# Altium footprint library SmartScale_PcbLib1.PcbLib: 51 footprints (part 2 of 4)
Each footprint in its own frame and in the unit in brackets; x right, y up, seen from the top. Pads: shape width x height; smd on the part's side, far side on the other; paste and mask are expansions set on the pad; w line width, h text height; cw(c..) or ccw(c..) is an arc to the next point about the centre after c.
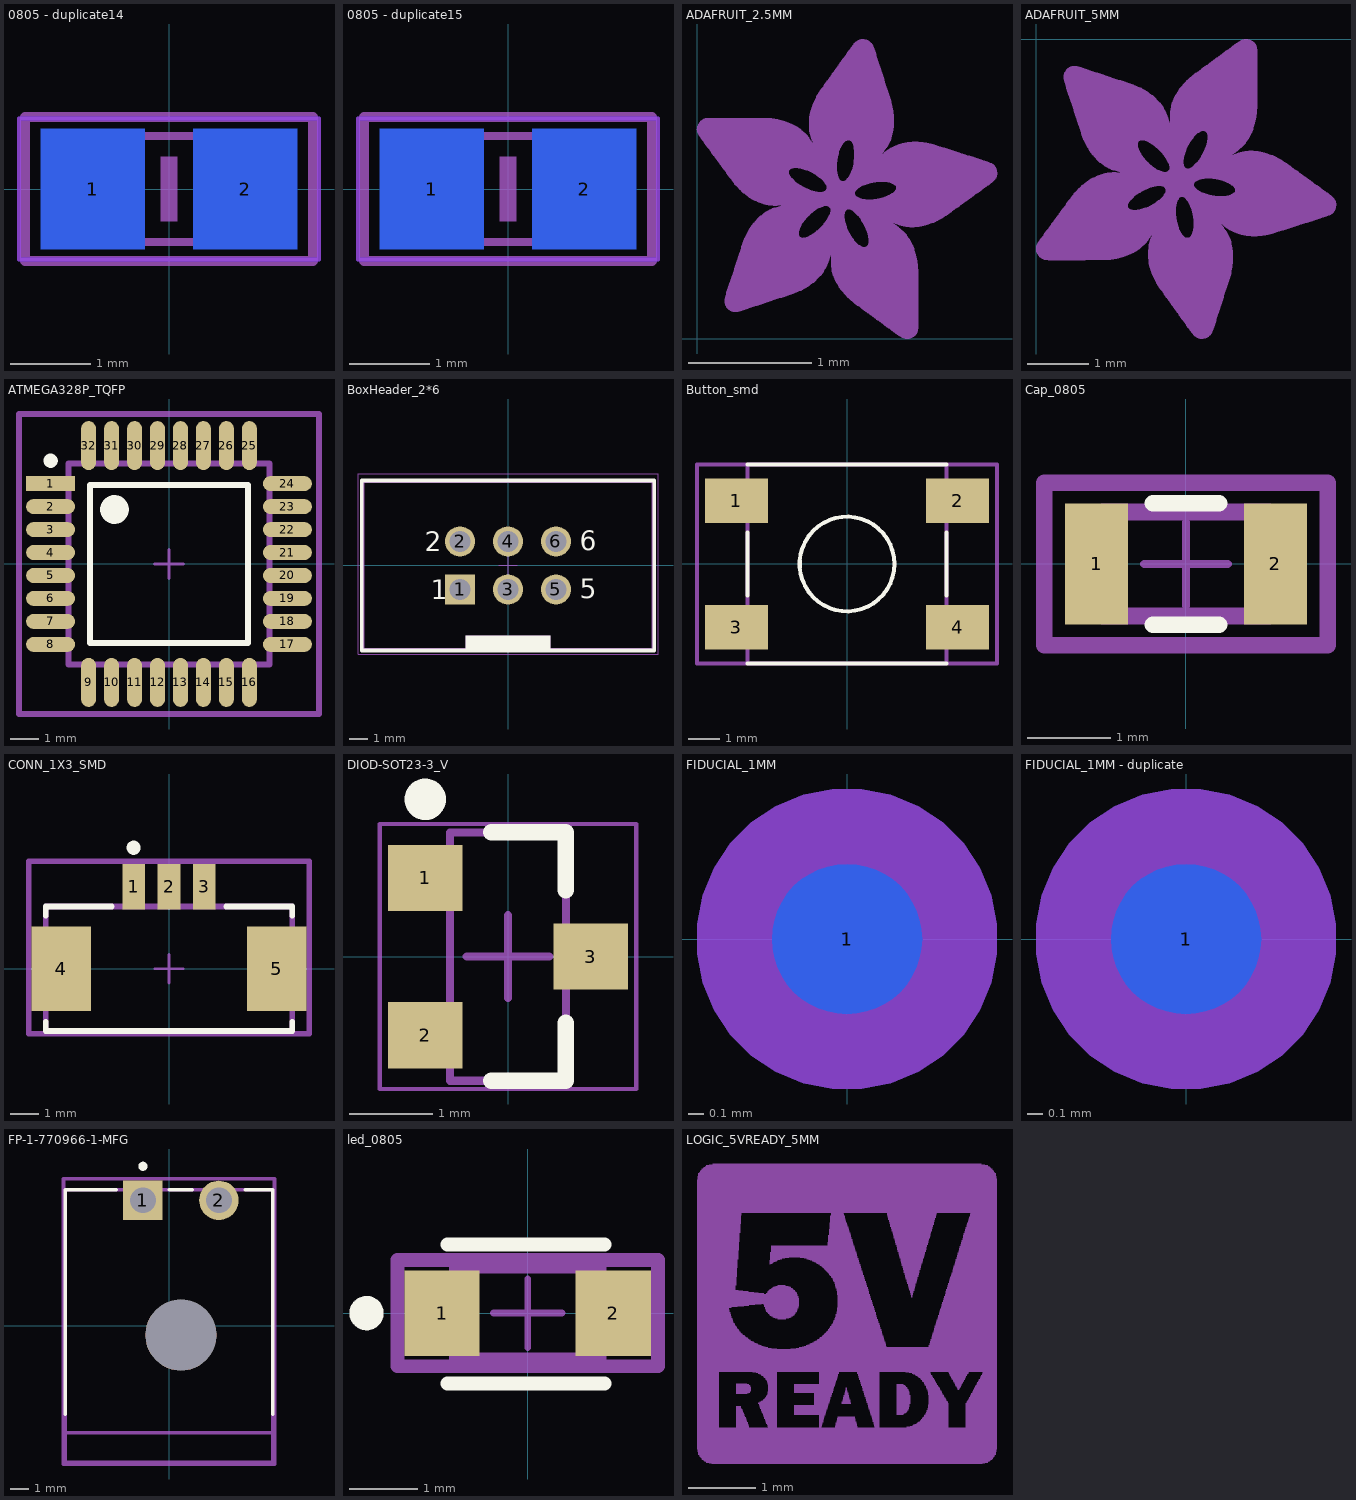
[diagram p1: the footprints below, top view; thin cyan lines are the x and y axes]

## 0805 - duplicate14 [mm] "0805"
pads (2):
  rect 1.3x1.5 smd far side: 1(-0.95,0) 2(0.95,0)
Bottom Layer keep-out:
  lines w0.051: -1.873,-0.883 -1.873,0.883 1.873,0.883 1.873,-0.883 -1.873,-0.883
Mechanical 4:
  region: 0.356,0.724 0.356,-0.726 1.106,-0.726 1.106,0.724
  region: -1.092,0.724 -1.092,-0.726 -0.342,-0.726 -0.342,0.724
  lines w0.102: -0.381,-0.66 0.381,-0.66 ; -0.356,0.66 0.381,0.66
Mechanical 8:
  lines w0.127: -1.8,-0.9 1.8,-0.9 1.8,0.9 -1.8,0.9 -1.8,-0.9
Top Glue Points:
  region: -0.1,0.4 -0.1,-0.4 0.1,-0.4 0.1,0.4

## 0805 - duplicate15 [mm] "0805"
pads (2):
  rect 1.3x1.5 smd far side: 1(-0.95,0) 2(0.95,0)
Bottom Layer keep-out:
  lines w0.051: -1.873,-0.883 -1.873,0.883 1.873,0.883 1.873,-0.883 -1.873,-0.883
Mechanical 4:
  region: 0.356,0.724 0.356,-0.726 1.106,-0.726 1.106,0.724
  region: -1.092,0.724 -1.092,-0.726 -0.342,-0.726 -0.342,0.724
  lines w0.102: -0.381,-0.66 0.381,-0.66 ; -0.356,0.66 0.381,0.66
Mechanical 8:
  lines w0.127: -1.8,-0.9 1.8,-0.9 1.8,0.9 -1.8,0.9 -1.8,-0.9
Top Glue Points:
  region: -0.1,0.4 -0.1,-0.4 0.1,-0.4 0.1,0.4

## ADAFRUIT_2.5MM [mm] "ADAFRUIT_2.5MM"
Mechanical 7:
  drawing of 1191 lines, arcs and shapes, not listed

## ADAFRUIT_5MM [mm] "ADAFRUIT_5MM"
Mechanical 8:
  drawing of 1191 lines, arcs and shapes, not listed

## ATMEGA328P_TQFP [mm]
pads (32):
  rect 1.704x0.526 smd paste+0 mask+0: 1(-4.125,2.8)
  rrect100% 1.704x0.526 smd paste+0 mask+0: 2(-4.125,2) 3(-4.125,1.2) 4(-4.125,0.4) 5(-4.125,-0.4) 6(-4.125,-1.2) 7(-4.125,-2) 8(-4.125,-2.8) 17(4.125,-2.8) 18(4.125,-2) 19(4.125,-1.2) 20(4.125,-0.4) 21(4.125,0.4) 22(4.125,1.2) 23(4.125,2) 24(4.125,2.8)
  rrect100% 0.526x1.704 smd paste+0 mask+0: 9(-2.8,-4.125) 10(-2,-4.125) 11(-1.2,-4.125) 12(-0.4,-4.125) 13(0.4,-4.125) 14(1.2,-4.125) 15(2,-4.125) 16(2.8,-4.125) 25(2.8,4.125) 26(2,4.125) 27(1.2,4.125) 28(0.4,4.125) 29(-0.4,4.125) 30(-1.2,4.125) 31(-2,4.125) 32(-2.8,4.125)
Top Overlay:
  circle w0.5: c-1.9,1.9 r0.25
  circle w0.25: c-4.125,3.6 r0.125
  lines w0.2: -2.75,-2.75 -2.75,2.75 2.75,2.75 2.75,-2.75 -2.75,-2.75
Mechanical 5:
  lines w0.2: -5.227,-5.227 -5.227,5.227 5.227,5.227 5.227,-5.227 -5.227,-5.227
  text ".Designator" at 0,0 h1
Mechanical 13:
  lines w0.2: -3.5,-3.5 -3.5,3.5 3.5,3.5 3.5,-3.5 -3.5,-3.5
Mechanical 15:
  lines w0.2: -5.227,-5.227 -5.227,5.227 5.227,5.227 5.227,-5.227 -5.227,-5.227
Mechanical 16:
  lines w0.1: -0.5,0 0.5,0 ; 0,-0.5 0,0.5
3D body "IC_Microchip_ATMEGA168PB-AU_eec.STEP": height 0.25, standoff 0, extent -5.227,-5.227 5.227,5.227

## BoxHeader_2*6 [mm] "6 pins, straight, gold plating"
height 9.1
pads (6):
  rect 1.6x1.6 hole 1.1: 1(-2.54,-1.27)
  round 1.6 hole 1.1: 2(-2.54,1.27) 3(0,-1.27) 4(0,1.27) 5(2.54,-1.27) 6(2.54,1.27)
Top Overlay:
  rectangle: -2.25,-4.5 2.25,-3.7
  lines w0.2: -7.74,-4.5 -7.74,4.5 7.74,4.5 7.74,-4.5 -7.74,-4.5
  text "5" at 3.8,-1.74 h1.02
  text "2" at -4.4,0.74 h1.02
  text "6" at 3.8,0.8 h1.02
  text "1" at -4.1,-1.8 h1.02
Mechanical 5:
  text ".Designator" at 0,0 h1
Mechanical 13:
  rectangle: -2.25,-4.425 2.25,-3.7
  lines w0.1: -7.64,-4.425 7.64,-4.425 7.64,4.425 -7.64,4.425 -7.64,-4.425
Mechanical 15:
  lines w0.05: -0.5,0 0.5,0 ; 0,-0.5 0,0.5 ; -7.94,-4.7 -7.94,4.85 7.94,4.85 7.94,-4.7 -7.94,-4.7
3D body "61200621621.stp": height 9.13, standoff -2.98, extent -7.64,-4.425 7.64,4.75

## Button_smd [mm] "6*6mm vertical type, SMD, height 2.5mm, salmon actuator, 360gf, T&R"
height 2.5
pads (4):
  rect 2x1.4 smd: 1(-3.5,2) 2(3.5,2) 3(-3.5,-2) 4(3.5,-2)
Top Overlay:
  circle w0.127: c0,0 r1.5
  lines w0.127: -3.15,-3.15 3.15,-3.15 ; -3.15,-1 -3.15,1 ; -3.15,3.15 1.3,3.15 3.15,3.15 ; 3.15,-1 3.15,1
Mechanical 13:
  lines w0.127: -3.15,-3.15 -3.15,3.15 3.15,3.15 3.15,-3.15 -3.15,-3.15
Mechanical 15:
  lines w0.127: -4.75,-3.15 4.75,-3.15 4.75,3.15 -4.75,3.15 -4.75,-3.15
3D body "4304x10258x6.stp": height 2.49, standoff -0.01, extent -4,-3.1 4,3.1

## Cap_0805 [mm]
pads (2):
  rect 0.756x1.456 smd paste+0 mask+0: 1(-1.075,0) 2(1.075,0)
Top Overlay:
  lines w0.2: -0.397,-0.728 0.397,-0.728 ; -0.397,0.728 0.397,0.728
Mechanical 5:
  lines w0.2: -1.703,-0.978 -1.703,0.978 1.703,0.978 1.703,-0.978 -1.703,-0.978
  text ".Designator" at 0,0.188 h1
Mechanical 13:
  lines w0.2: -1,-0.625 -1,0.625 1,0.625 1,-0.625 -1,-0.625
Mechanical 15:
  lines w0.2: -1.703,-0.978 -1.703,0.978 1.703,0.978 1.703,-0.978 -1.703,-0.978
Mechanical 16:
  lines w0.1: -0.5,0 0.5,0 ; 0,-0.5 0,0.5
3D body "Cap_TDK_Corporation_CGA4J3X7R1H684M125AB_eec.STEP": height 0.25, standoff 0, extent -1.703,-0.978 1.703,0.978

## CONN_1X3_SMD [mm]
pads (5):
  rect 0.8x1.6 smd paste+0 mask+0: 1(-1.25,2.9) 2(0,2.9) 3(1.25,2.9)
  rect 2.1x3 smd paste+0 mask+0: 4(-3.8,0) 5(3.8,0)
Top Overlay:
  circle w0.25: c-1.25,4.275 r0.125
  lines w0.2: -4.35,-1.875 -4.35,-2.2 4.35,-2.2 4.35,-1.875 ; -4.35,1.875 -4.35,2.2 -2.025,2.2 ; 2.025,2.2 4.35,2.2 4.35,1.875
Mechanical 5:
  lines w0.2: -4.95,-2.3 4.95,-2.3 4.95,3.8 -4.95,3.8 -4.95,-2.3
  text ".Designator" at 0,0.75 h1
Mechanical 13:
  lines w0.2: -4.35,-2.2 4.35,-2.2 4.35,2.2 -4.35,2.2 -4.35,-2.2
Mechanical 15:
  lines w0.2: -4.95,-2.3 4.95,-2.3 4.95,3.8 -4.95,3.8 -4.95,-2.3
Mechanical 16:
  lines w0.1: -0.5,0 0.5,0 ; 0,-0.5 0,0.5
3D body "Conn_Molex_53261-0371_eec.STEP": height 0.25, standoff 0, extent -4.95,-2.3 4.95,3.8

## DIOD-SOT23-3_V [mm] "SOT23, 3-Leads, Body 3x1.4mm, Pitch 0.95mm"
height 1.1
pads (3):
  rect 0.9x0.8 smd: 1(-1,0.95) 2(-1,-0.95) 3(1,0)
Top Overlay:
  circle w0.25: c-1,1.9 r0.125
  lines w0.2: -0.2,-1.5 0.7,-1.5 0.7,-0.8 ; -0.2,1.5 0.7,1.5 0.7,0.8
Mechanical 13:
  lines w0.1: -0.7,-1.5 -0.7,1.5 0.7,1.5 0.7,-1.5 -0.7,-1.5
Mechanical 15:
  lines w0.05: -1.55,-1.6 -1.55,1.6 1.55,1.6 1.55,-1.6 -1.55,-1.6
  lines w0.1: -0.5,0 0.5,0 ; 0,-0.5 0,0.5
3D body "SOT95P240X110-3L.step": height 1.1, standoff 0, extent -1.25,-1.5 1.25,1.5

## FIDUCIAL_1MM [mm] "FIDUCIAL_1MM"
pads (1):
  rrect100% 1x1 smd far side paste+0 mask+0: 1(0,0)
Bottom Layer keep-out:
  region: -1,0 -1,0.098 -0.962,0.292 -0.886,0.474 -0.777,0.637 -0.637,0.777 -0.474,0.886 -0.292,0.962 -0.098,1 0,1 0.098,1 0.292,0.962 0.474,0.886 0.637,0.777 0.777,0.637 0.886,0.474 0.962,0.292 1,0.098 1,0 1,-0.098 0.962,-0.292 0.886,-0.474 0.777,-0.637 0.637,-0.777 0.474,-0.886 0.292,-0.962 0.098,-1 0,-1 -0.098,-1 -0.292,-0.962 -0.474,-0.886 -0.637,-0.777 -0.777,-0.637 -0.886,-0.474 -0.962,-0.292 -1,-0.098
Bottom Solder:
  region: -1,0 -1,0.098 -0.962,0.292 -0.886,0.474 -0.777,0.637 -0.637,0.777 -0.474,0.886 -0.292,0.962 -0.098,1 0,1 0.098,1 0.292,0.962 0.474,0.886 0.637,0.777 0.777,0.637 0.886,0.474 0.962,0.292 1,0.098 1,0 1,-0.098 0.962,-0.292 0.886,-0.474 0.777,-0.637 0.637,-0.777 0.474,-0.886 0.292,-0.962 0.098,-1 0,-1 -0.098,-1 -0.292,-0.962 -0.474,-0.886 -0.637,-0.777 -0.777,-0.637 -0.886,-0.474 -0.962,-0.292 -1,-0.098

## FIDUCIAL_1MM - duplicate [mm] "FIDUCIAL_1MM"
pads (1):
  rrect100% 1x1 smd far side paste+0 mask+0: 1(0,0)
Bottom Layer keep-out:
  region: -1,0 -1,0.098 -0.962,0.292 -0.886,0.474 -0.777,0.637 -0.637,0.777 -0.474,0.886 -0.292,0.962 -0.098,1 0,1 0.098,1 0.292,0.962 0.474,0.886 0.637,0.777 0.777,0.637 0.886,0.474 0.962,0.292 1,0.098 1,0 1,-0.098 0.962,-0.292 0.886,-0.474 0.777,-0.637 0.637,-0.777 0.474,-0.886 0.292,-0.962 0.098,-1 0,-1 -0.098,-1 -0.292,-0.962 -0.474,-0.886 -0.637,-0.777 -0.777,-0.637 -0.886,-0.474 -0.962,-0.292 -1,-0.098
Bottom Solder:
  region: -1,0 -1,0.098 -0.962,0.292 -0.886,0.474 -0.777,0.637 -0.637,0.777 -0.474,0.886 -0.292,0.962 -0.098,1 0,1 0.098,1 0.292,0.962 0.474,0.886 0.637,0.777 0.777,0.637 0.886,0.474 0.962,0.292 1,0.098 1,0 1,-0.098 0.962,-0.292 0.886,-0.474 0.777,-0.637 0.637,-0.777 0.474,-0.886 0.292,-0.962 0.098,-1 0,-1 -0.098,-1 -0.292,-0.962 -0.474,-0.886 -0.637,-0.777 -0.777,-0.637 -0.886,-0.474 -0.962,-0.292 -1,-0.098

## FP-1-770966-1-MFG [mm]
pads (3):
  rect 2.15x2.15 hole 1.4 paste-1000 mask+0: 1(-1.42,6.845)
  round 2.15 hole 1.4 paste-1000 mask+0: 2(2.72,6.845)
  round 3.86 hole 3.86 unplated paste-1000 mask+0: ""(0.65,-0.495)
Top Overlay:
  circle w0.25: c-1.42,8.7 r0.125
  lines w0.2: -5.645,-4.8 -5.645,7.42 -2.87,7.42 ; 0.03,7.42 1.27,7.42 ; 4.17,7.42 5.645,7.42 5.645,-4.8
Mechanical 5:
  lines w0.2: -5.745,-7.52 -5.745,8.02 5.745,8.02 5.745,-7.52 -5.745,-7.52
  text ".Designator" at 0,0.25 h1
Mechanical 13:
  lines w0.2: -5.745,-5.825 5.745,-5.825 ; -5.645,-7.42 -5.645,7.42 5.645,7.42 5.645,-7.42 -5.645,-7.42
Mechanical 15:
  lines w0.2: -5.745,-7.52 -5.745,8.02 5.745,8.02 5.745,-7.52 -5.745,-7.52
Mechanical 16:
  lines w0.1: -0.5,0 0.5,0 ; 0,-0.5 0,0.5
3D body "Conn_TE_1-770966-1_eec.STEP": height 0.25, standoff 0, extent -5.745,-7.52 5.745,8.02

## led_0805 [mm]
pads (2):
  rect 1.1x1.25 smd paste+0 mask+0: 1(-1.25,0) 2(1.25,0)
Top Overlay:
  circle w0.25: c-2.35,0 r0.125
  lines w0.2: -1.175,-1.025 1.125,-1.025 ; -1.175,1 1.125,1
Mechanical 5:
  lines w0.2: -1.9,-0.775 -1.9,0.775 1.9,0.775 1.9,-0.775 -1.9,-0.775
  text ".Designator" at 0,0 h1
Mechanical 13:
  lines w0.2: -1.05,-0.675 -1.05,0.675 1.05,0.675 1.05,-0.675 -1.05,-0.675
Mechanical 15:
  lines w0.2: -1.9,-0.775 -1.9,0.775 1.9,0.775 1.9,-0.775 -1.9,-0.775
Mechanical 16:
  lines w0.1: -0.5,0 0.5,0 ; 0,-0.5 0,0.5
3D body "Diode_Lite-On_LTST-C171TBKT_eec.STEP": height 0.25, standoff 0, extent -1.9,-0.775 1.9,0.775

## li-po battery [mm]
3D body "LiPo_Battery_120mAh v1.step": height 4, standoff 0, extent 1.82,1.62 38.82,16.808

## LOGIC_5VREADY_5MM [mm] "LOGIC_5VREADY_5MM"
Mechanical 7:
  drawing of 1595 lines, arcs and shapes, not listed